# EAGLE library part Q_STK681 (library MRDT-2014-All)
DC BRUSH H-Bridge 6.1A 42V
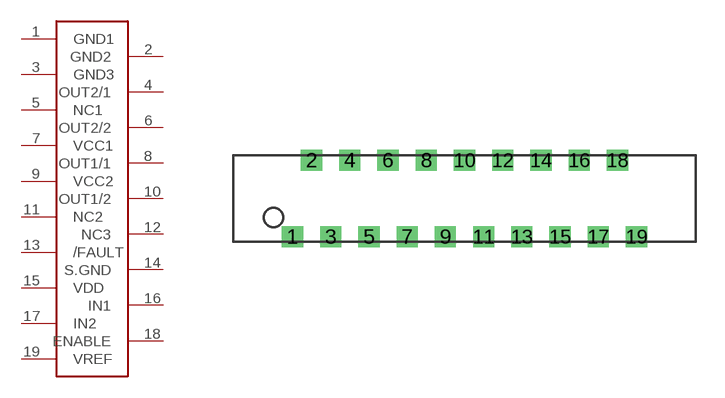
[diagram p10: symbol with the pads of SIP19; footprint SIP19]

Designator prefix Q

## Q_STK681  [SIP19]
1  GND1
2  GND2
3  GND3
4  OUT2/1
5  NC1
6  OUT2/2
7  VCC1
8  OUT1/1
9  VCC2
10  OUT1/2
11  NC2
12  NC3
13  /FAULT
14  S.GND
15  VDD
16  IN1
17  IN2
18  ENABLE
19  VREF

## Footprint SIP19 (pad centres in mm)
drill 0.6 square: 1 -9,-2; 2 -8,2; 3 -7,-2; 4 -6,2; 5 -5,-2; 6 -4,2; 7 -3,-2; 8 -2,2; 9 -1,-2; 10 0,2; 11 1,-2; 12 2,2; 13 3,-2; 14 4,2; 15 5,-2; 16 6,2; 17 7,-2; 18 8,2; 19 9,-2